# EAGLE library part TL2575 (library BMS_Slave_v2)
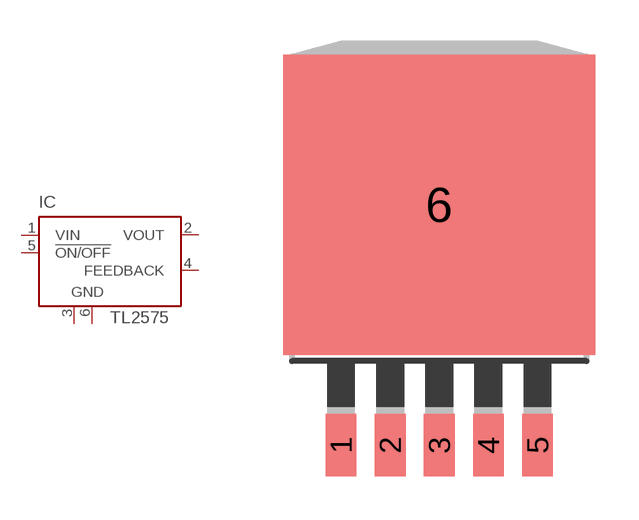
[diagram p5: symbol with the pads of TO263-5; footprint TO263-5]

Designator prefix IC

## TL2575  [TO263-5]
1  VIN  in
2  VOUT  in
3  GND  pwr
4  FEEDBACK  in
5  !ON/OFF  in
6  GND  pwr

## Footprint TO263-5 (pad centres in mm)
TO-263
smd 1.067 x 2.159: 1 -3.404,-5.791; 2 -1.702,-5.791; 3 0,-5.791; 4 1.702,-5.791; 5 3.404,-5.791
smd 10.8 x 10.41: 6 0,2.54